# Altium schematic symbol library CONN ifib 51-0310.Schlib: 1 symbol
Pins are listed as number, name and electrical type; pins without a type are passive.

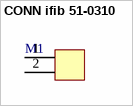
[diagram p0: symbol CONN ifib 51-0310]

## CONN ifib 51-0310
designator M1
footprint CONN FiberOptic 51-310 (Footprint not found)
pins: 1, 2
2 alternate drawings of the same symbol